# EAGLE library part MM74C922N (library MM74C922N)
Encoders, Decoders, Multiplexers & Demultiplexers 16-Key Encoder Source: Datasheet <https://www.fairchildsemi.com/datasheets/MM/MM74C922.pdf>
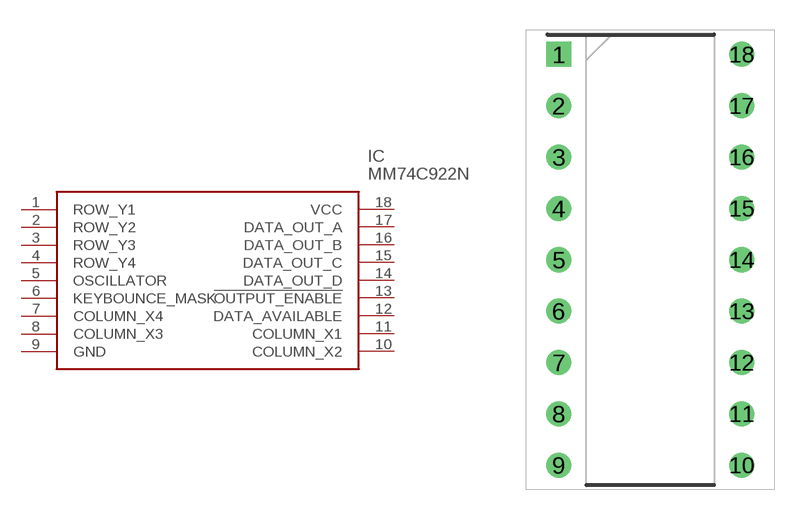
[diagram p0: symbol with the pads of DIP927W56P260L2273H533Q18N; footprint DIP927W56P260L2273H533Q18N]

Designator prefix IC

## MM74C922N (Description: Encoders, Decoders, Multiplexers & Demultiplexers 16-Key Encoder; Height: 5.33mm; Manufacturer_Name: Fairchild Semiconductor; Manufacturer_Part_Number: MM74C922N; Mouser_Part_Number: 512-MM74C922N; Mouser_Price-Stock: https://www.mouser.com/Search/Refine.aspx?Keyword=512-MM74C922N)  [DIP927W56P260L2273H533Q18N]
1  ROW_Y1
2  ROW_Y2
3  ROW_Y3
4  ROW_Y4
5  OSCILLATOR
6  KEYBOUNCE_MASK
7  COLUMN_X4
8  COLUMN_X3
9  GND
10  COLUMN_X2
11  COLUMN_X1
12  DATA_AVAILABLE
13  !OUTPUT_ENABLE
14  DATA_OUT_D
15  DATA_OUT_C
16  DATA_OUT_B
17  DATA_OUT_A
18  VCC

## Footprint DIP927W56P260L2273H533Q18N (pad centres in mm)
18-Lead PDIP N18B
drill 0.76 pad 1.16 square: 1 -4.635,10.42
drill 0.76 pad 1.16: 2 -4.635,7.815; 3 -4.635,5.21; 4 -4.635,2.605; 5 -4.635,0; 6 -4.635,-2.605; 7 -4.635,-5.21; 8 -4.635,-7.815; 9 -4.635,-10.42; 10 4.635,-10.42; 11 4.635,-7.815; 12 4.635,-5.21; 13 4.635,-2.605; 14 4.635,0; 15 4.635,2.605; 16 4.635,5.21; 17 4.635,7.815; 18 4.635,10.42